# Altium footprint library DFN-10-3x3.PcbLib: 1 footprints
Each footprint in its own frame and in the unit in brackets; x right, y up, seen from the top. Pads: shape width x height; smd on the part's side, far side on the other; paste and mask are expansions set on the pad; w line width, h text height; cw(c..) or ccw(c..) is an arc to the next point about the centre after c.
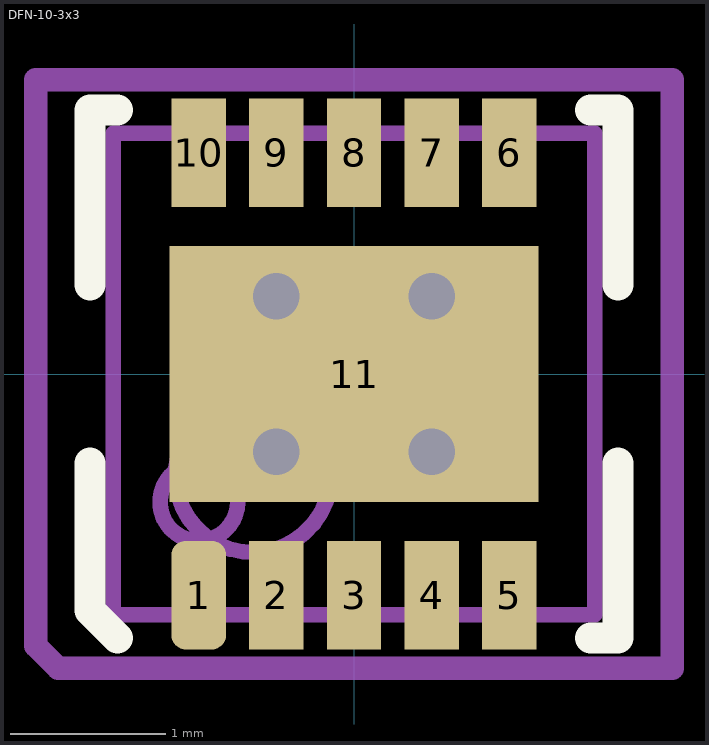
[diagram p0: the footprint, top view; thin cyan lines are the x and y axes]

## DFN-10-3x3 [mm] "DD, 10-Leads-DFN-, Body 3x3mm, Pitch 0,50mm, Thermal Pad 2,38x1,65mm, IPC-L"
height 0.8
pads (11):
  rrect50% 0.35x0.7 smd mask+0: 1(-1,-1.425)
  rect 0.35x0.7 smd mask+0: 2(-0.5,-1.425) 3(0,-1.425) 4(0.5,-1.425) 5(1,-1.425) 6(1,1.425) 7(0.5,1.425) 8(0,1.425) 9(-0.5,1.425) 10(-1,1.425)
  rect 2.38x1.65 smd: 11(0,0)
via -0.5,-0.5 diameter 0.6 hole 0.3
via -0.5,0.5 diameter 0.6 hole 0.3
via 0.5,-0.5 diameter 0.6 hole 0.3
via 0.5,0.5 diameter 0.6 hole 0.3
Top Overlay:
  lines w0.2: -1.7,-0.575 -1.7,-1.525 -1.525,-1.7 ; -1.7,0.575 -1.7,1.7 -1.525,1.7 ; 1.525,-1.7 1.7,-1.7 1.7,-0.575 ; 1.525,1.7 1.7,1.7 1.7,0.575
Mechanical 13:
  circle w0.1: c-0.65,-0.65 r0.5
  lines w0.1: -1.55,-1.55 -1.55,1.55 1.55,1.55 1.55,-1.55 -1.55,-1.55
Mechanical 15:
  circle w0.1: c-1,-0.825 r0.25
  lines w0.1: -0.5,0 0.5,0 ; 0,-0.5 0,0.5
  lines w0.15: -2.05,-1.75 -2.05,1.895 2.05,1.895 2.05,-1.895 -1.905,-1.895 -2.05,-1.75
3D body: height 0.8, standoff 0.05, extent -1.55,-1.55 1.55,1.55